# EAGLE library part MODULO_DS3231 (library misc)
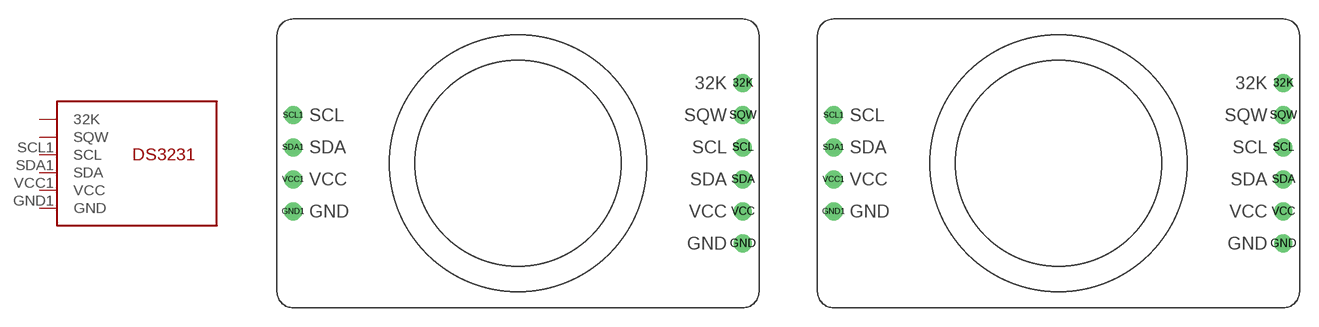
[diagram p7: symbol with the pads of MODULO_DS3231; footprints MODULO_DS3231, MODULO_DS3231_6PIN]

Designator prefix -

## MODULO_DS3231  [MODULO_DS3231]
GND1  GND
SCL1  SCL
SDA1  SDA
VCC1  VCC

## MODULO_DS32316PIN  [MODULO_DS3231_6PIN]
32K  32K
GND  GND
SCL  SCL
SDA  SDA
SQW  SQW
VCC  VCC

## Footprint MODULO_DS3231 (pad centres in mm)
drill 0.813 pad 1.422: 32K 36.83,6.35; GND 36.83,-6.35; GND1 1.27,-3.81; SCL 36.83,1.27; SCL1 1.27,3.81; SDA 36.83,-1.27; SDA1 1.27,1.27; SQW 36.83,3.81; VCC 36.83,-3.81; VCC1 1.27,-1.27

## Footprint MODULO_DS3231_6PIN (pad centres in mm)
drill 0.813 pad 1.422: 32K 36.83,6.35; GND 36.83,-6.35; GND1 1.27,-3.81; SCL 36.83,1.27; SCL1 1.27,3.81; SDA 36.83,-1.27; SDA1 1.27,1.27; SQW 36.83,3.81; VCC 36.83,-3.81; VCC1 1.27,-1.27